# Altium footprint library Goouuu-GPRSModel-A7封装库.PcbLib: 16 footprints
Each footprint in its own frame and in the unit in brackets; x right, y up, seen from the top. Pads: shape width x height; smd on the part's side, far side on the other; paste and mask are expansions set on the pad; w line width, h text height; cw(c..) or ccw(c..) is an arc to the next point about the centre after c.
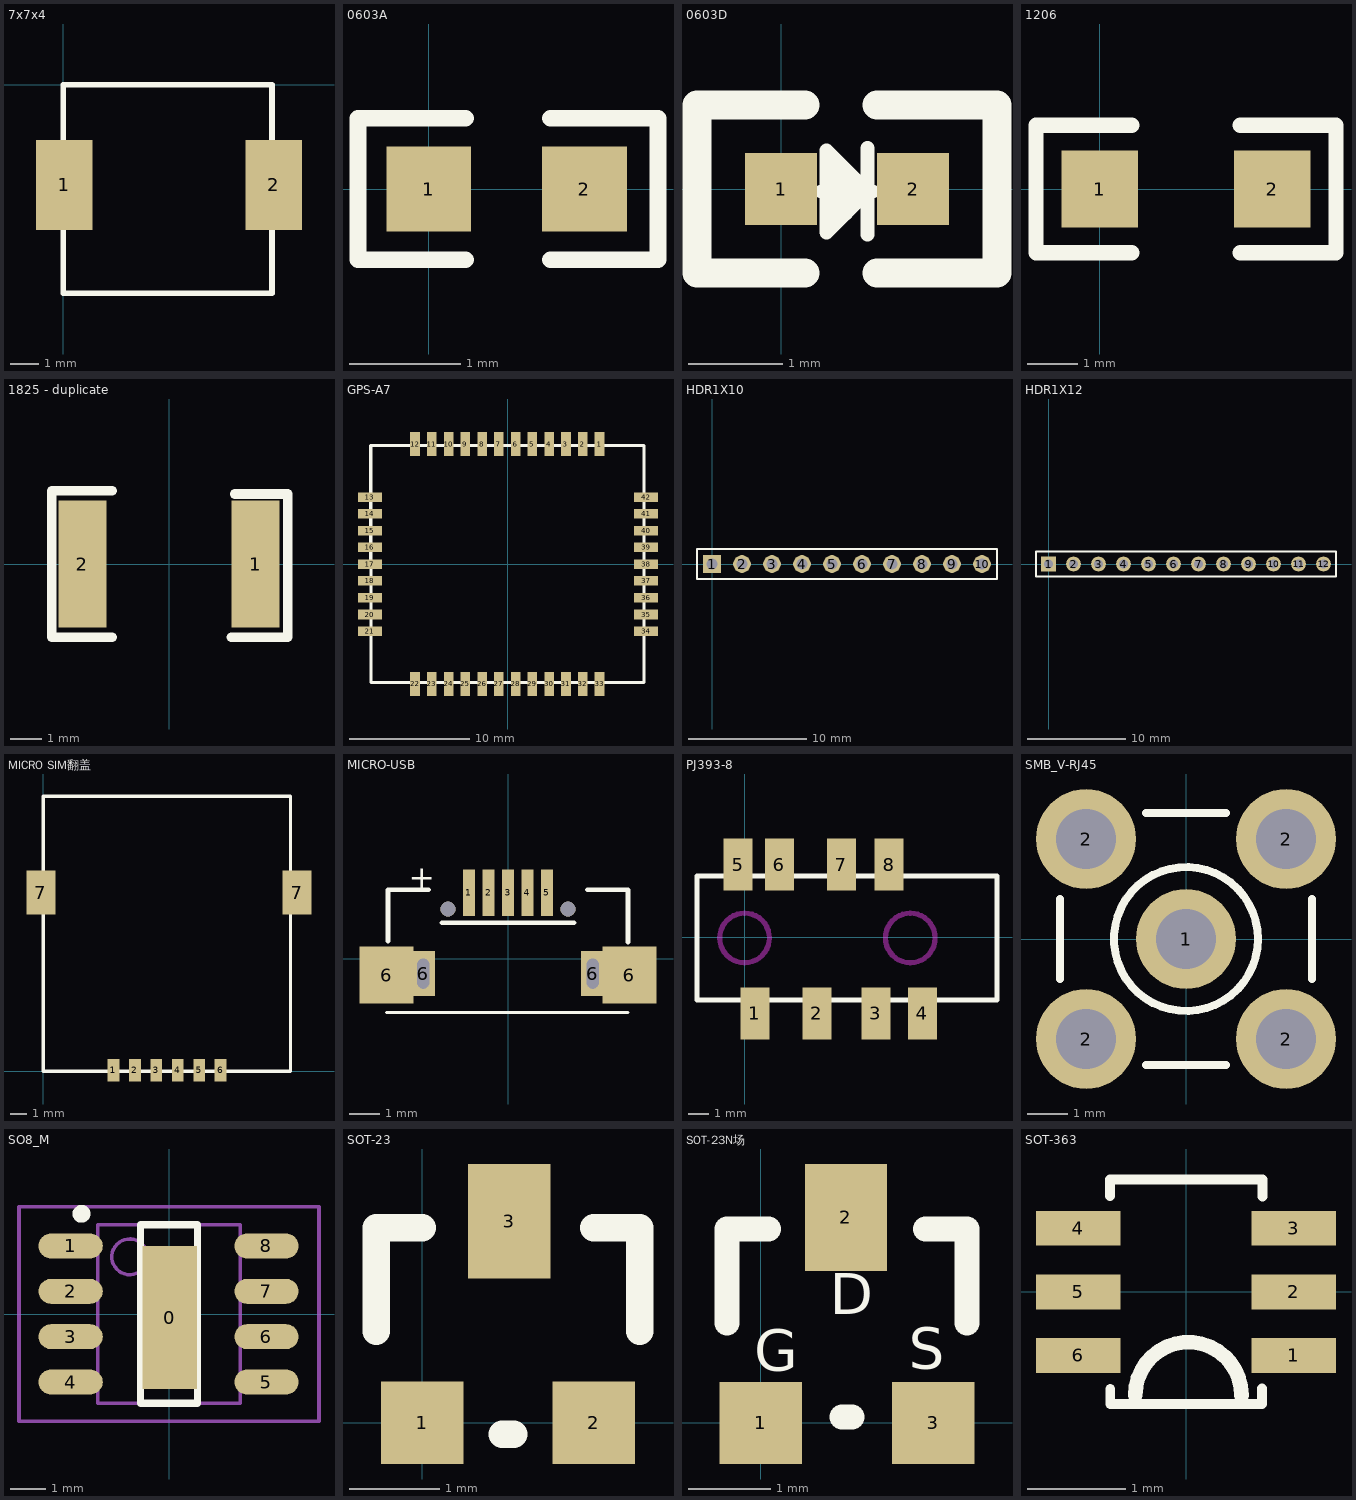
[diagram p0: the footprints below, top view; thin cyan lines are the x and y axes]

## 7x7x4 [mm]
height 1.75
pads (2):
  rect 2x3.2 smd: 1(0.025,-3.556) 2(7.468,-3.556)
Top Overlay:
  lines w0.2: 0,-7.4 0,0 7.4,0 7.4,-7.4 0,-7.4

## 0603A [mil]
height 68.9
pads (2):
  rect 30x30 smd: 1(0,0) 2(55,0)
Top Overlay:
  lines w5.91: 13,-25 -25,-25 -25,25 13,25 ; 43,-25 81,-25 81,25 43,25

## 0603D [mil]
height 68.9
pads (2):
  rect 30x30 smd: 1(0,0) 2(55,0)
Top Overlay:
  lines w5.91: 17,-1 38,-1 ; 36,-19 36,17 ; 19,-18 36,-1 19,16 19,-18
  lines w11.81: 25,-8 25,5
  lines w12: 10,-35 -35,-35 -35,35 10,35 ; 40,-35 90,-35 90,35 40,35

## 1206 [mil]
height 68.9
pads (2):
  rect 60x60 smd: 1(0,0) 2(135,0)
Top Overlay:
  lines w12: 25,-50 -50,-50 -50,50 25,50 ; 110,-50 185,-50 185,50 110,50

## 1825 - duplicate [mil]
height 68.9
pads (2):
  rect 60x157.48 smd: 1(107.5,0) 2(-107.5,0)
Top Overlay:
  lines w12: -70.5,-91 -145.5,-91 -145.5,91 -70.5,91 ; 77.5,-91 147.5,-91 147.5,87 81.5,87

## GPS-A7 [mm]
height 1.75
pads (42):
  rect 0.8x2 smd: 1(7.639,10) 2(6.239,10) 3(4.839,10) 4(3.439,10) 5(2.039,10) 6(0.639,10) 7(-0.761,10) 8(-2.161,10) 9(-3.561,10) 10(-4.961,10) 11(-6.361,10) 12(-7.761,10) 22(-7.761,-10) 23(-6.361,-10) 24(-4.961,-10) 25(-3.561,-10) 26(-2.161,-10) 27(-0.761,-10) 28(0.639,-10) 29(2.039,-10) 30(3.439,-10) 31(4.839,-10) 32(6.239,-10) 33(7.639,-10)
  rect 2x0.8 smd: 13(-11.519,5.585) 14(-11.519,4.185) 15(-11.519,2.785) 16(-11.519,1.385) 17(-11.519,-0.015) 18(-11.519,-1.415) 19(-11.519,-2.815) 20(-11.519,-4.215) 21(-11.519,-5.615) 34(11.519,-5.615) 35(11.519,-4.215) 36(11.519,-2.815) 37(11.519,-1.415) 38(11.519,-0.015) 39(11.519,1.385) 40(11.519,2.785) 41(11.519,4.185) 42(11.519,5.585)
Top Overlay:
  lines w0.254: -11.455,9.881 -11.45,-9.881 ; -11.45,-9.9 11.35,-9.9 ; -11.45,9.9 11.35,9.9 ; 11.349,9.906 11.354,-9.881
  text "." at 8.56,10.363 h3

## HDR1X10 [mm] "Connector; Header; 10 Position"
pads (10):
  rect 1.5x1.5 hole 0.9: 1(0,0)
  round 1.5 hole 0.9: 2(2.54,0) 3(5.08,0) 4(7.62,0) 5(10.16,0) 6(12.7,0) 7(15.24,0) 8(17.78,0) 9(20.32,0) 10(22.86,0)
Top Overlay:
  lines w0.2: -1.27,-1.27 -1.27,1.27 0.635,1.27 24.13,1.27 24.13,-1.27 -1.27,-1.27

## HDR1X12 [mm] "Connector; Header; 12 Position"
height 1.75
pads (12):
  rect 1.5x1.5 hole 0.9: 1(0,0)
  round 1.5 hole 0.9: 2(2.54,0) 3(5.08,0) 4(7.62,0) 5(10.16,0) 6(12.7,0) 7(15.24,0) 8(17.78,0) 9(20.32,0) 10(22.86,0) 11(25.4,0) 12(27.94,0)
Top Overlay:
  lines w0.2: -1.27,-1.27 -1.27,1.27 0.635,1.27 29.21,1.27 29.21,-1.27 -1.27,-1.27

## MICRO SIM翻盖 [mm]
height 1.75
pads (8):
  rect 0.7x1.35 smd: 1(4.166,0.069) 2(5.436,0.069) 3(6.706,0.069) 4(7.976,0.069) 5(9.246,0.069) 6(10.516,0.069)
  rect 1.7x2.6 smd: 7(-0.138,10.6) 7(15.052,10.6)
Top Overlay:
  lines w0.203: 0,0 14.66,0 14.66,16.3 0,16.3 0,0

## MICRO-USB [mm]
height 1.7
pads (11):
  rect 0.4x1.55 smd: 1(-1.3,2.2) 2(-0.65,2.2) 3(0,2.2) 4(0.65,2.2) 5(1.3,2.2)
  rect 1.8x1.9 smd: 6(-4.05,-0.55) 6(4.05,-0.55)
  rect 0.8x1.5 hole 0.4 slot 1 at 90 deg: 6(-2.825,-0.5) 6(2.825,-0.5)
  round 0.5 hole 0.5 unplated: ""(-2,1.65) ""(2,1.65)
Top Overlay:
  lines w0.1: -4.05,-1.8 4,-1.8
  lines w0.152: -4,0.584 -4,2.3 -2.65,2.3 ; -2.2,1.2 2.2,1.2 ; 2.65,2.3 4,2.3 4,0.55
  text "+" at -3.3,2.35 h0.76
Keep-Out Layer:
  lines w0.127: -3.054,-1.043 -2.596,-1.043 -2.596,0.075 -3.054,0.075 -3.054,-1.043 ; 2.596,-1.043 3.054,-1.043 3.054,0.075 2.596,0.075 2.596,-1.043
Mechanical 1:
  lines w0.127: -3.054,-1.043 -3.054,0.075 -2.596,0.075 -2.596,-1.043 -3.054,-1.043 ; 2.596,-1.043 2.596,0.075 3.054,0.075 3.054,-1.043 2.596,-1.043

## PJ393-8 [mm]
pads (8):
  rect 1.4x2.5 smd: 1(0.489,-3.676) 2(3.489,-3.676) 3(6.339,-3.676) 4(8.589,-3.676) 5(-0.326,3.524) 6(1.674,3.524) 7(4.674,3.524) 8(6.974,3.524)
Top Overlay:
  lines w0.254: 12.189,-3.004 12.189,2.972 -2.311,2.972 -2.311,-3.028 12.192,-3.028
Keep-Out Layer:
  circle w0.254: c-0.011,-0.025 r1.2
  circle w0.254: c8,-0.025 r1.2

## SMB_V-RJ45 [mm] "Connector; SMB Straight"
height 1.75
pads (5):
  round 2.5 hole 1.5: 1(0,0) 2(-2.5,-2.5) 2(-2.5,2.5) 2(2.5,-2.5) 2(2.5,2.5)
Top Overlay:
  circle w0.2: c0,0 r1.8
  lines w0.2: -3.15,-1 -3.15,1 ; -1,-3.15 1,-3.15 ; -1,3.15 1,3.15 ; 3.15,-1 3.15,1
Mechanical 1:
  circle w0.025: c0,0 r0.2
  circle w0.025: c0,0 r1.05
  circle w0.025: c0,0 r1.8

## SO8_M [mm] "SOIC, 8-Leads, Body 4.9x3.9mm, Pitch 1.27mm, IPC Low Density"
height 1.75
pads (9):
  rect 1.524x4 smd: 0(0.025,-0.102)
  oval 1.8x0.7 smd: 1(-2.755,1.905) 2(-2.755,0.635) 3(-2.755,-0.635) 4(-2.755,-1.905) 5(2.729,-1.905) 6(2.729,-0.635) 7(2.729,0.635) 8(2.729,1.905)
Top Overlay:
  circle w0.25: c-2.45,2.805 r0.125
  lines w0.2: -0.8,-2.5 0.8,-2.5 0.8,2.5 -0.8,2.5 -0.8,-2.5
Mechanical 13:
  circle w0.1: c-1.1,1.6 r0.5
  lines w0.1: -2,-2.5 2,-2.5 2,2.5 -2,2.5 -2,-2.5
Mechanical 15:
  lines w0.1: -0.5,0 0.5,0 ; 0,-0.5 0,0.5 ; -4.2,-3 4.2,-3 4.2,3 -4.2,3 -4.2,-3
3D body: height 1.75, standoff 0, extent -2,-2.5 2,2.5

## SOT-23 [mil]
height 68.9
pads (3):
  rect 36x36 smd: 1(0,0) 2(75,0)
  rect 36x50 smd: 3(38,87.87)
Top Overlay:
  lines w12: -20,40 -20,85 0,85 ; 35,-5 40,-5 ; 75,85 95,85 95,40

## SOT-23N场 [mm]
height 1.75
pads (3):
  rect 1x1 smd: 1(0,0) 3(2.1,0)
  rect 1x1.3 smd: 2(1.037,2.5)
Top Overlay:
  lines w0.305: -0.41,1.216 -0.41,2.359 0.098,2.359 ; 0.987,0.073 1.114,0.073 ; 2.003,2.359 2.511,2.359 2.511,1.216
  text "D" at 0.838,1.321 h0.5
  text "S" at 1.803,0.66 h0.5
  text "G" at -0.076,0.635 h0.5

## SOT-363 [mil]
height 68.9
pads (6):
  rect 34x14 smd: 1(43.31,-25.59) 2(43.31,0) 3(43.31,25.59) 4(-43.31,25.59) 5(-43.31,0) 6(-43.31,-25.59)
Top Overlay:
  lines w4: -30.63,38.61 -30.63,45.14 30.73,45.14 30.73,38.42 ; -30.45,-38.98 -30.45,-45.14 30.55,-45.14 30.55,-38.8
  lines w5.91: -20.42,-41.59 cw(c0.94,-41.59) 22.31,-41.59